# Altium schematic symbol library charge.SchLib: 13 symbols
Pins are listed as number, name and electrical type; pins without a type are passive.

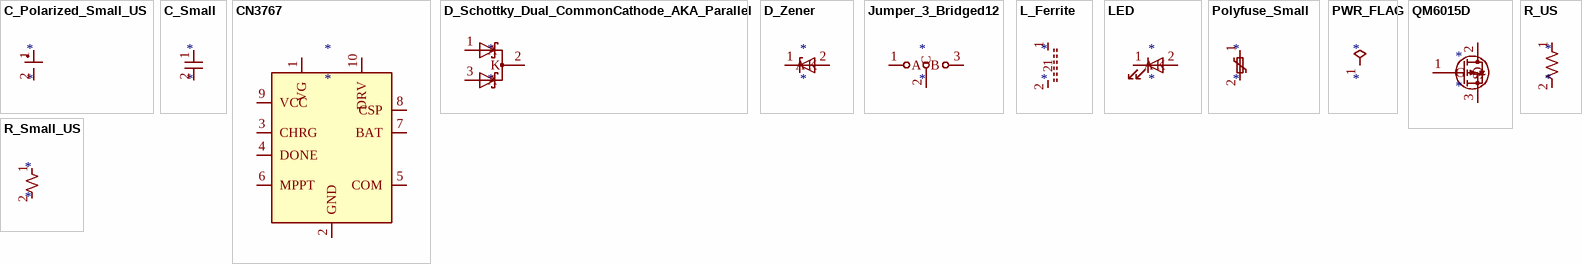
[diagram p0: symbols C_Polarized_Small_US to R_US]

## C_Polarized_Small_US
designator *
pins: 1, 2

## C_Small
designator *
pins: 1, 2

## CN3767
designator *
pins: 1 VG, 2 GND, 3 CHRG, 4 DONE, 5 COM, 6 MPPT, 7 BAT, 8 CSP, 9 VCC, 10 DRV

## D_Schottky_Dual_CommonCathode_AKA_Parallel
designator *
pins: 1 A, 2 K, 3 A

## D_Zener
designator *
pins: 1 K, 2 A

## Jumper_3_Bridged12
designator *
pins: 1 A, 2 C, 3 B

## L_Ferrite
designator *
pins: 1, 2

## LED
designator *
pins: 1 K, 2 A

## Polyfuse_Small
designator *
pins: 1, 2

## PWR_FLAG
designator *  (graphical)
pins: 1

## QM6015D
designator *
pins: 1 G, 2 D, 3 S

## R_Small_US
designator *
pins: 1, 2

## R_US
designator *
pins: 1, 2